# Altium schematic symbol library STM32.SchLib: 10 symbols
Pins are listed as number, name and electrical type; pins without a type are passive.

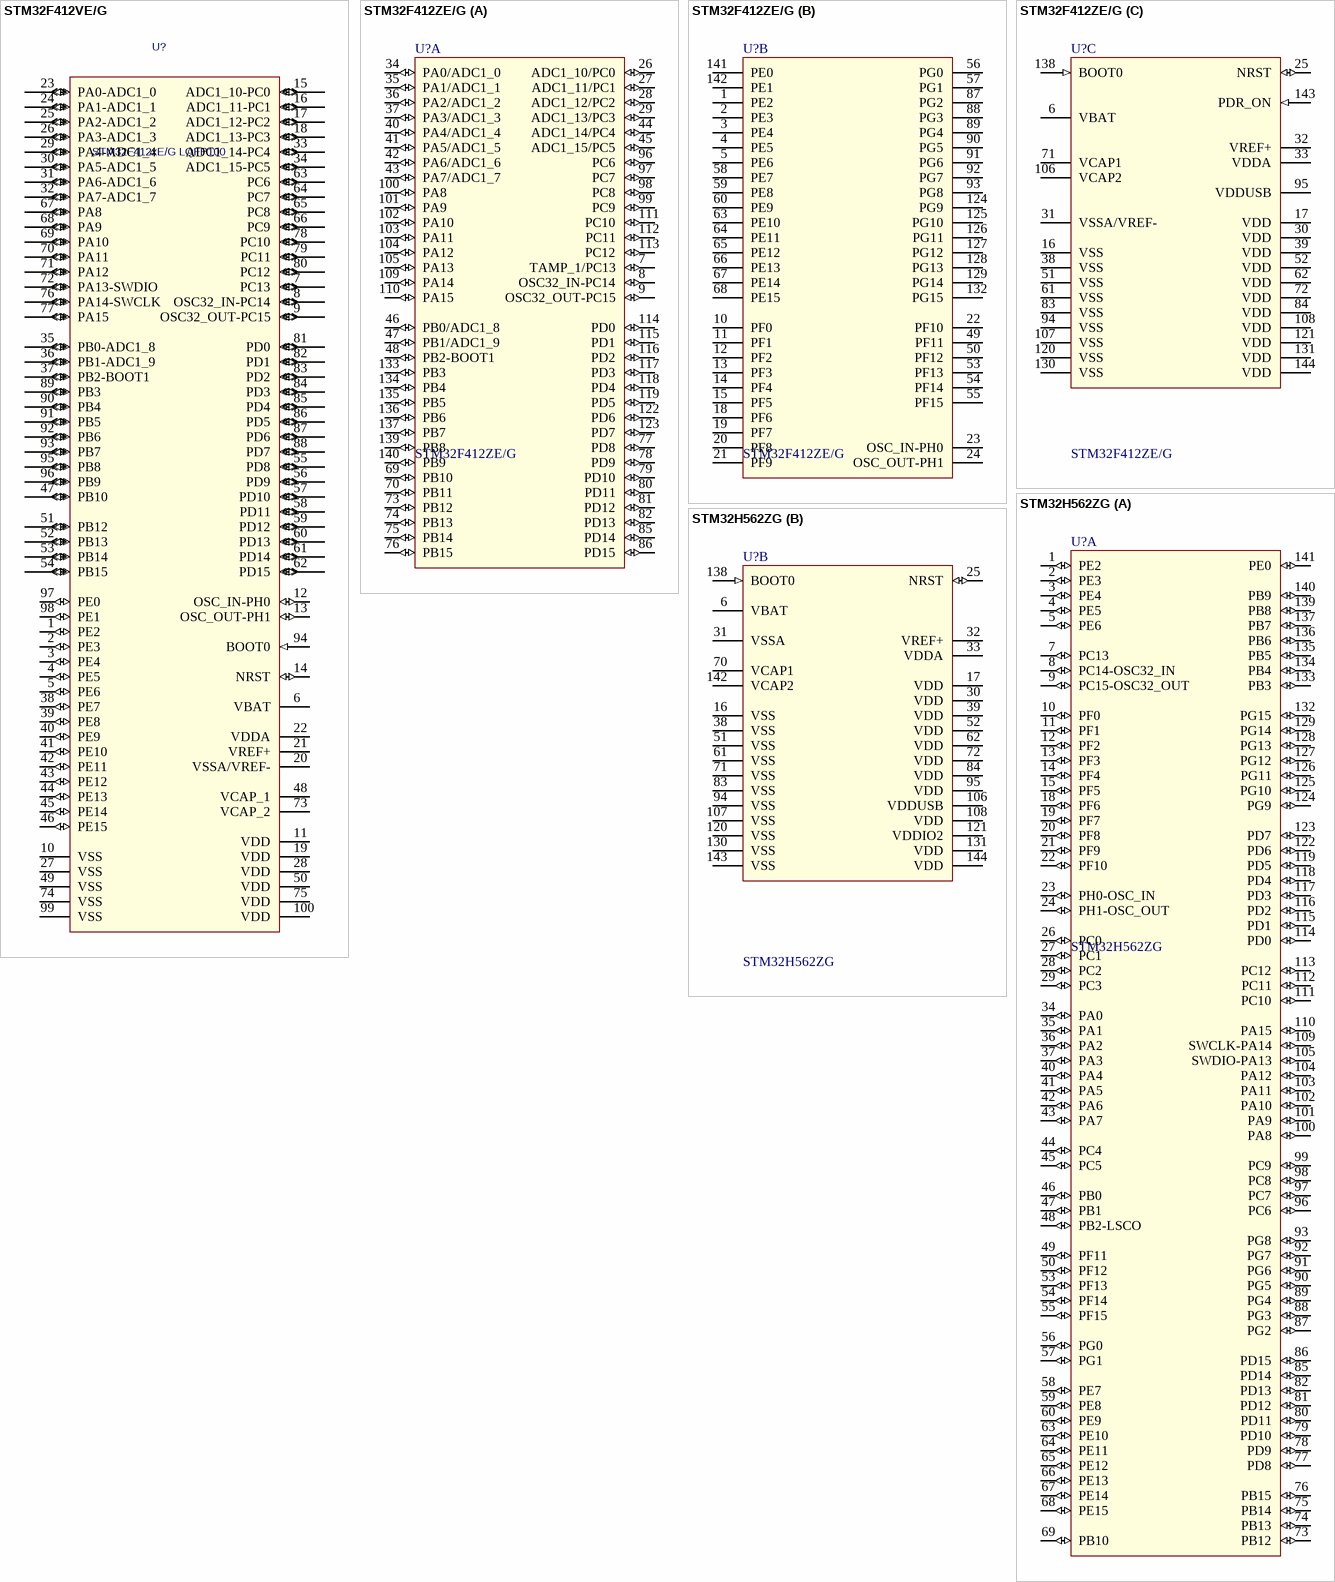
[diagram p0: symbols STM32F412VE/G to STM32H562ZG]

## STM32F412VE/G
designator U?, comment STM32F412xE/G LQFP100
STM32 Dynamic Efficiency MCU with BAM, High-performance and DSP with FPU, Arm Cortex-M4 MCU with 512 Kbytes of Flash memory, 100 MHz CPU, Art Accelerator, DFSDM; Value: *
footprint LQFP100_14x14 (LQFP, 100-Leads, Body 14,00x14,00mm, Pitch 0,50mm, IPC Medium Density)
pins: 1 PE2 (io), 2 PE3 (io), 3 PE4 (io), 4 PE5 (io), 5 PE6 (io), 6 VBAT (power), 7 PC13 (io), 8 OSC32_IN-PC14 (io), 9 OSC32_OUT-PC15 (io), 10 VSS (power), 11 VDD (power), 12 OSC_IN-PH0 (io), 13 OSC_OUT-PH1 (io), 14 NRST (io), 15 ADC1_10-PC0 (io), 16 ADC1_11-PC1 (io), 17 ADC1_12-PC2 (io), 18 ADC1_13-PC3 (io), 19 VDD (power), 20 VSSA/VREF- (power), 21 VREF+ (power), 22 VDDA, 23 PA0-ADC1_0 (io), 24 PA1-ADC1_1 (io), 25 PA2-ADC1_2 (io), 26 PA3-ADC1_3 (io), 27 VSS (power), 28 VDD (power), 29 PA4-ADC1_4 (io), 30 PA5-ADC1_5 (io), 31 PA6-ADC1_6 (io), 32 PA7-ADC1_7 (io), 33 ADC1_14-PC4 (io), 34 ADC1_15-PC5 (io), 35 PB0-ADC1_8 (io), 36 PB1-ADC1_9 (io), 37 PB2-BOOT1 (io), 38 PE7 (io), 39 PE8 (io), 40 PE9 (io), 41 PE10 (io), 42 PE11 (io), 43 PE12 (io), 44 PE13 (io), 45 PE14 (io), 46 PE15 (io), 47 PB10 (io), 48 VCAP_1, 49 VSS (power), 50 VDD (power), 51 PB12 (io), 52 PB13 (io), 53 PB14 (io), 54 PB15 (io), 55 PD8 (io), 56 PD9 (io), 57 PD10 (io), 58 PD11 (io), 59 PD12 (io), 60 PD13 (io), 61 PD14 (io), 62 PD15 (io), 63 PC6 (io), 64 PC7 (io), 65 PC8 (io), 66 PC9 (io), 67 PA8 (io), 68 PA9 (io), 69 PA10 (io), 70 PA11 (io), 71 PA12 (io), 72 PA13-SWDIO (io), 73 VCAP_2, 74 VSS (power), 75 VDD (power), 76 PA14-SWCLK (io), 77 PA15 (io), 78 PC10 (io), 79 PC11 (io), 80 PC12 (io), 81 PD0 (io), 82 PD1 (io), 83 PD2 (io), 84 PD3 (io), 85 PD4 (io), 86 PD5 (io), 87 PD6 (io), 88 PD7 (io), 89 PB3 (io), 90 PB4 (io), 91 PB5 (io), 92 PB6 (io), 93 PB7 (io), 94 BOOT0 (in), 95 PB8 (io), 96 PB9 (io), 97 PE0 (io), 98 PE1 (io), 99 VSS (power), 100 VDD (power)

## STM32F412ZE/G
designator U?
STM32 Dynamic Efficiency MCU with BAM, High-performance and DSP with FPU, Arm Cortex-M4 MCU with 512 Kbytes of Flash memory, 100 MHz CPU, Art Accelerator, DFSDM
footprint LQFP144_20x20 (LQFP 144-pin, 20 x 20 mm low-profile quad flat package)
part A pins: 7 TAMP_1/PC13 (io), 8 OSC32_IN-PC14 (io), 9 OSC32_OUT-PC15 (io), 26 ADC1_10/PC0 (io), 27 ADC1_11/PC1 (io), 28 ADC1_12/PC2 (io), 29 ADC1_13/PC3 (io), 34 PA0/ADC1_0 (io), 35 PA1/ADC1_1 (io), 36 PA2/ADC1_2 (io), 37 PA3/ADC1_3 (io), 40 PA4/ADC1_4 (io), 41 PA5/ADC1_5 (io), 42 PA6/ADC1_6 (io), 43 PA7/ADC1_7 (io), 44 ADC1_14/PC4 (io), 45 ADC1_15/PC5 (io), 46 PB0/ADC1_8 (io), 47 PB1/ADC1_9 (io), 48 PB2-BOOT1 (io), 69 PB10 (io), 70 PB11 (io), 73 PB12 (io), 74 PB13 (io), 75 PB14 (io), 76 PB15 (io), 77 PD8 (io), 78 PD9 (io), 79 PD10 (io), 80 PD11 (io), 81 PD12 (io), 82 PD13 (io), 85 PD14 (io), 86 PD15 (io), 96 PC6 (io), 97 PC7 (io), 98 PC8 (io), 99 PC9 (io), 100 PA8 (io), 101 PA9 (io), 102 PA10 (io), 103 PA11 (io), 104 PA12 (io), 105 PA13 (io), 109 PA14 (io), 110 PA15 (io), 111 PC10 (io), 112 PC11 (io), 113 PC12 (io), 114 PD0 (io), 115 PD1 (io), 116 PD2 (io), 117 PD3 (io), 118 PD4 (io), 119 PD5 (io), 122 PD6 (io), 123 PD7 (io), 133 PB3 (io), 134 PB4 (io), 135 PB5 (io), 136 PB6 (io), 137 PB7 (io), 139 PB8 (io), 140 PB9 (io)
part B pins: 1 PE2, 2 PE3, 3 PE4, 4 PE5, 5 PE6, 10 PF0, 11 PF1, 12 PF2, 13 PF3, 14 PF4, 15 PF5, 18 PF6, 19 PF7, 20 PF8, 21 PF9, 22 PF10, 23 OSC_IN-PH0, 24 OSC_OUT-PH1, 49 PF11, 50 PF12, 53 PF13, 54 PF14, 55 PF15, 56 PG0, 57 PG1, 58 PE7, 59 PE8, 60 PE9, 63 PE10, 64 PE11, 65 PE12, 66 PE13, 67 PE14, 68 PE15, 87 PG2, 88 PG3, 89 PG4, 90 PG5, 91 PG6, 92 PG7, 93 PG8, 124 PG9, 125 PG10, 126 PG11, 127 PG12, 128 PG13, 129 PG14, 132 PG15, 141 PE0, 142 PE1
part C pins: 6 VBAT, 16 VSS (power), 17 VDD (power), 25 NRST (io), 30 VDD (power), 31 VSSA/VREF- (power), 32 VREF+, 33 VDDA, 38 VSS (power), 39 VDD (power), 51 VSS (power), 52 VDD (power), 61 VSS (power), 62 VDD, 71 VCAP1, 72 VDD (power), 83 VSS (power), 84 VDD (power), 94 VSS (power), 95 VDDUSB (power), 106 VCAP2, 107 VSS (power), 108 VDD (power), 120 VSS (power), 121 VDD (power), 130 VSS, 131 VDD, 138 BOOT0 (in), 143 PDR_ON (in), 144 VDD (power)

## STM32H562ZG
designator U?
High-performance, Arm Cortex-M33 with TrustZone, MCU with 1-MByte Flash, 640-Kbyte RAM, 250 MHz CPU; value: STM32H562ZG
footprint LQFP144_20x20 (LQFP 144-pin, 20 x 20 mm low-profile quad flat package)
part A pins: 1 PE2 (io), 2 PE3 (io), 3 PE4 (io), 4 PE5 (io), 5 PE6 (io), 7 PC13 (io), 8 PC14-OSC32_IN (io), 9 PC15-OSC32_OUT (io), 10 PF0 (io), 11 PF1 (io), 12 PF2 (io), 13 PF3 (io), 14 PF4 (io), 15 PF5 (io), 18 PF6 (io), 19 PF7 (io), 20 PF8 (io), 21 PF9 (io), 22 PF10 (io), 23 PH0-OSC_IN (io), 24 PH1-OSC_OUT (io), 26 PC0 (io), 27 PC1 (io), 28 PC2 (io), 29 PC3 (io), 34 PA0 (io), 35 PA1 (io), 36 PA2 (io), 37 PA3 (io), 40 PA4 (io), 41 PA5 (io), 42 PA6 (io), 43 PA7 (io), 44 PC4 (io), 45 PC5 (io), 46 PB0 (io), 47 PB1 (io), 48 PB2-LSCO (io), 49 PF11 (io), 50 PF12 (io), 53 PF13 (io), 54 PF14 (io), 55 PF15 (io), 56 PG0 (io), 57 PG1 (io), 58 PE7 (io), 59 PE8 (io), 60 PE9 (io), 63 PE10 (io), 64 PE11 (io), 65 PE12 (io), 66 PE13 (io), 67 PE14 (io), 68 PE15 (io), 69 PB10 (io), 73 PB12 (io), 74 PB13 (io), 75 PB14 (io), 76 PB15 (io), 77 PD8 (io), 78 PD9 (io), 79 PD10 (io), 80 PD11 (io), 81 PD12 (io), 82 PD13 (io), 85 PD14 (io), 86 PD15 (io), 87 PG2 (io), 88 PG3 (io), 89 PG4 (io), 90 PG5 (io), 91 PG6 (io), 92 PG7 (io), 93 PG8 (io), 96 PC6 (io), 97 PC7 (io), 98 PC8 (io), 99 PC9 (io), 100 PA8 (io), 101 PA9 (io), 102 PA10 (io), 103 PA11 (io), 104 PA12 (io), 105 SWDIO-PA13 (io), 109 SWCLK-PA14 (io), 110 PA15 (io), 111 PC10 (io), 112 PC11 (io), 113 PC12 (io), 114 PD0 (io), 115 PD1 (io), 116 PD2 (io), 117 PD3 (io), 118 PD4 (io), 119 PD5 (io), 122 PD6 (io), 123 PD7 (io), 124 PG9 (io), 125 PG10 (io), 126 PG11 (io), 127 PG12 (io), 128 PG13 (io), 129 PG14 (io), 132 PG15 (io), 133 PB3 (io), 134 PB4 (io), 135 PB5 (io), 136 PB6 (io), 137 PB7 (io), 139 PB8 (io), 140 PB9 (io), 141 PE0 (io)
part B pins: 6 VBAT, 16 VSS (power), 17 VDD (power), 25 NRST (io), 30 VDD (power), 31 VSSA, 32 VREF+ (power), 33 VDDA, 38 VSS (power), 39 VDD (power), 51 VSS (power), 52 VDD (power), 61 VSS (power), 62 VDD, 70 VCAP1, 71 VSS (power), 72 VDD (power), 83 VSS (power), 84 VDD (power), 94 VSS (power), 95 VDD (power), 106 VDDUSB (power), 107 VSS (power), 108 VDD (power), 120 VSS (power), 121 VDDIO2 (power), 130 VSS, 131 VDD, 138 BOOT0 (in), 142 VCAP2, 143 VSS (power), 144 VDD (power)

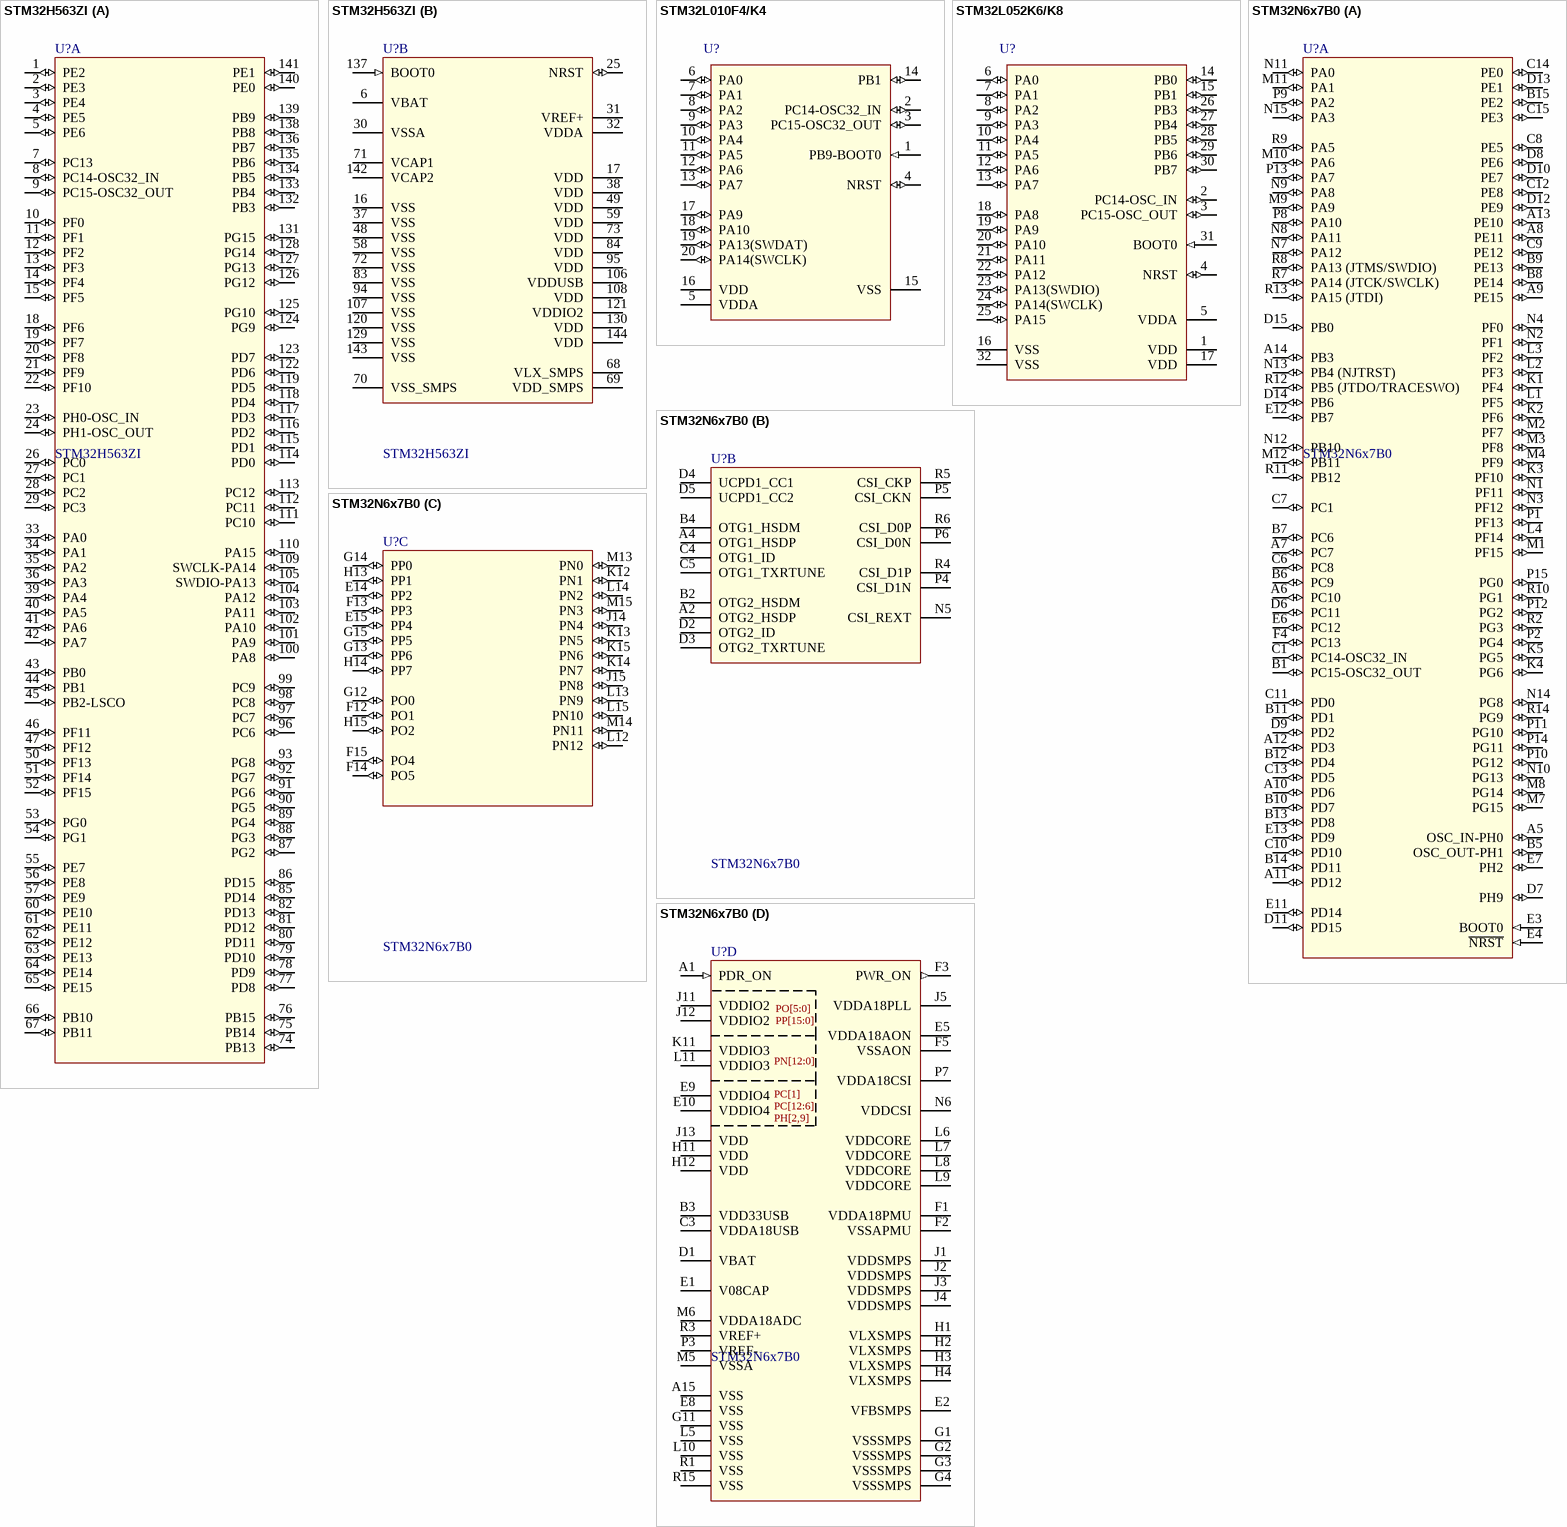
[diagram p1: symbols STM32H563ZI to STM32N6x7B0]

## STM32H563ZI
designator U?
ARM Microcontrollers - MCU Arm Cortex-M33 32-bit 250 MHz 2 Mbytes Flash 640KB RAM I3C, DCMI, Ethernet, SMPS; value: STM32H563ZI
footprint LQFP144_20x20 (LQFP 144-pin, 20 x 20 mm low-profile quad flat package)
part A pins: 1 PE2 (io), 2 PE3 (io), 3 PE4 (io), 4 PE5 (io), 5 PE6 (io), 7 PC13 (io), 8 PC14-OSC32_IN (io), 9 PC15-OSC32_OUT (io), 10 PF0 (io), 11 PF1 (io), 12 PF2 (io), 13 PF3 (io), 14 PF4 (io), 15 PF5 (io), 18 PF6 (io), 19 PF7 (io), 20 PF8 (io), 21 PF9 (io), 22 PF10 (io), 23 PH0-OSC_IN (io), 24 PH1-OSC_OUT (io), 26 PC0 (io), 27 PC1 (io), 28 PC2 (io), 29 PC3 (io), 33 PA0 (io), 34 PA1 (io), 35 PA2 (io), 36 PA3 (io), 39 PA4 (io), 40 PA5 (io), 41 PA6 (io), 42 PA7 (io), 43 PB0 (io), 44 PB1 (io), 45 PB2-LSCO (io), 46 PF11 (io), 47 PF12 (io), 50 PF13 (io), 51 PF14 (io), 52 PF15 (io), 53 PG0 (io), 54 PG1 (io), 55 PE7 (io), 56 PE8 (io), 57 PE9 (io), 60 PE10 (io), 61 PE11 (io), 62 PE12 (io), 63 PE13 (io), 64 PE14 (io), 65 PE15 (io), 66 PB10 (io), 67 PB11 (io), 74 PB13 (io), 75 PB14 (io), 76 PB15 (io), 77 PD8 (io), 78 PD9 (io), 79 PD10 (io), 80 PD11 (io), 81 PD12 (io), 82 PD13 (io), 85 PD14 (io), 86 PD15 (io), 87 PG2 (io), 88 PG3 (io), 89 PG4 (io), 90 PG5 (io), 91 PG6 (io), 92 PG7 (io), 93 PG8 (io), 96 PC6 (io), 97 PC7 (io), 98 PC8 (io), 99 PC9 (io), 100 PA8 (io), 101 PA9 (io), 102 PA10 (io), 103 PA11 (io), 104 PA12 (io), 105 SWDIO-PA13 (io), 109 SWCLK-PA14 (io), 110 PA15 (io), 111 PC10 (io), 112 PC11 (io), 113 PC12 (io), 114 PD0 (io), 115 PD1 (io), 116 PD2 (io), 117 PD3 (io), 118 PD4 (io), 119 PD5 (io), 122 PD6 (io), 123 PD7 (io), 124 PG9 (io), 125 PG10 (io), 126 PG12 (io), 127 PG13 (io), 128 PG14 (io), 131 PG15 (io), 132 PB3 (io), 133 PB4 (io), 134 PB5 (io), 135 PB6 (io), 136 PB7 (io), 138 PB8 (io), 139 PB9 (io), 140 PE0 (io), 141 PE1 (io)
part B pins: 6 VBAT, 16 VSS (power), 17 VDD (power), 25 NRST (io), 30 VSSA (power), 31 VREF+, 32 VDDA, 37 VSS (power), 38 VDD (power), 48 VSS (power), 49 VDD (power), 58 VSS (power), 59 VDD, 68 VLX_SMPS (power), 69 VDD_SMPS (power), 70 VSS_SMPS (power), 71 VCAP1, 72 VSS (power), 73 VDD (power), 83 VSS (power), 84 VDD (power), 94 VSS (power), 95 VDD (power), 106 VDDUSB (power), 107 VSS (power), 108 VDD (power), 120 VSS (power), 121 VDDIO2, 129 VSS, 130 VDD (power), 137 BOOT0 (in), 142 VCAP2, 143 VSS, 144 VDD (power)

## STM32L010F4/K4
designator U?
Ultra-low-power value line Arm Cortex-M0+ MCU with 16-Kbyte of Flash memory, 32 MHz CPU; PartNumber: STM32F050F6P7; FLASH Size (Prog) (kB): 32; I/Os (High Current): 15; Internal RAM Size (kB): 4; Operating Frequency(F) (Processor speed) (MHz): 48; Packing: Tube; Supply Voltage(Vcc) min (V): 2; DatasheetVersion: Rev. 1; PackageVersion: Rev. 1, 11/2012; PackageReference: TSSOP20; PackageDescription: 20-Pin Thin Shrink Small Outline Package, 6.5 x 4.4 mm Body, 0.65 mm Pitch; Supplier 1: Newark; Supplier Part Number 1: 19X6195; Supplier 2: Mouser; Supplier Part Number 2: 511-STM32F050F6P7; Core: ARM Cortex-M0; Mounting Technology: Surface Mount; ComponentLink1Description: Manufacturer URL; ComponentLink1URL: http://www.st.com/web/en/home.html; ComponentLink2Description: Datasheet; ComponentLink2URL: http://www.st.com/st-web-ui/static/active/en/resource/technical/document/datasheet/DM00065136.pdf; ComponentLink3Description: Package Specification; ComponentLink3URL: http://www.st.com/st-web-ui/static/active/en/resource/technical/document/datasheet/DM00065136.pdf
footprint TSSOP-20 (Shrink Small Outline; 20 Leads; Body Width 4.4 mm; Pitch 0.65 mm)
pins: 1 PB9-BOOT0 (in) "Boot memory selection", 2 PC14-OSC32_IN (io) "PC14-OSC_IN", 3 PC15-OSC32_OUT (io) "PC15-OSC_OUT", 4 NRST (io) "Device reset input / internal reset output (active low)", 5 VDDA (power) "Analog power supply", 6 PA0 (io) "PA0-CK_IN", 7 PA1 (io), 8 PA2 (io), 9 PA3 (io), 10 PA4 (io), 11 PA5 (io), 12 PA6 (io), 13 PA7 (io), 14 PB1 (io) "PB1/TIM3_CH4,TIM14_CH1,TIM1_CH3N/ADC_IN9", 15 VSS (power) "Ground", 16 VDD (power) "Digital power supply", 17 PA9 (io), 18 PA10 (io), 19 PA13(SWDAT) (io) "PA13(SWDAT)/IR_OUT,SWDAT", 20 PA14(SWCLK) (io) "PA14(SWCLK)/SWCLK,USART1_TX"

## STM32L052K6/K8
designator U?
Ultra-low power ARM Cortex-M0+ MCU with 64 Kbytes Flash, 32 MHz CPU, USB; PartNumber: STM32F050F6P7; FLASH Size (Prog) (kB): 32; I/Os (High Current): 15; Internal RAM Size (kB): 4; Operating Frequency(F) (Processor speed) (MHz): 48; Packing: Tube; Supply Voltage(Vcc) min (V): 2; DatasheetVersion: Rev. 1; PackageVersion: Rev. 1, 11/2012; PackageReference: TSSOP20; PackageDescription: 20-Pin Thin Shrink Small Outline Package, 6.5 x 4.4 mm Body, 0.65 mm Pitch; Supplier 1: Newark; Supplier Part Number 1: 19X6195; Supplier 2: Mouser; Supplier Part Number 2: 511-STM32F050F6P7; Core: ARM Cortex-M0; Mounting Technology: Surface Mount; ComponentLink1Description: Manufacturer URL; ComponentLink1URL: http://www.st.com/web/en/home.html; ComponentLink2Description: Datasheet; ComponentLink2URL: http://www.st.com/st-web-ui/static/active/en/resource/technical/document/datasheet/DM00065136.pdf; ComponentLink3Description: Package Specification; ComponentLink3URL: http://www.st.com/st-web-ui/static/active/en/resource/technical/document/datasheet/DM00065136.pdf
footprint STM-LQFP32_N (QFP, 32-Leads, Body 7x7mm, Pitch 0.8mm, IPC Medium Density)
pins: 1 VDD (power) "Digital power supply", 2 PC14-OSC_IN (io) "PF0-OSC_IN(PF0)/OSC_IN", 3 PC15-OSC_OUT (io) "PF1-OSC_OUT(PF1)/OSC_OUT", 4 NRST (io) "Device reset input / internal reset output (active low)", 5 VDDA (power) "Analog power supply", 6 PA0 (io) "PA0/USART1_CTS/ADC_IN0,RTC_TAMP2,WKUP1", 7 PA1 (io) "PA1/USART1_RTS,EVENTOUT/ADC_IN1", 8 PA2 (io) "PA2/USART1_TX/ADC_IN2", 9 PA3 (io) "PA3/USART1_RX/ADC_IN3", 10 PA4 (io) "PA4/SPI1_NSS,USART1_CK,TIM14_CH1/ADC_IN4", 11 PA5 (io) "PA5/SPI1_SCK/ADC_IN5", 12 PA6 (io) "PA6/SPI1_MISO,TIM3_CH1,TIM1_BKIN,TIM16_CH1,EVENTOUT/ADC_IN6", 13 PA7 (io) "PA7/SPI1_MOSI,TIM3_CH2,TIM14_CH1,TIM1_CH1N,TIM17_CH1,EVENTOUT/ADC_IN7", 14 PB0 (io) "PB0/TIM3_CH3,TIM1_CH2N,EVENTOUT/ADC_IN8", 15 PB1 (io) "PB1/TIM3_CH4,TIM14_CH1,TIM1_CH3N/ADC_IN9", 16 VSS (power) "Ground", 17 VDD (power) "Digital power supply", 18 PA8 (io) "PA8/USART1_CK,TIM1_CH1,EVENTOUT,MCO", 19 PA9 (io) "PA9/USART1_TX,TIM1_CH2,I2C1_SCL", 20 PA10 (io) "PA10/USART1_RX,TIM1_CH3,TIM17_BKIN,I2C1_SDA", 21 PA11 (io) "PA11/USART1_CTS,TIM1_CH4,EVENTOUT", 22 PA12 (io) "PA12/USART1_RTS,TIM1_ETR,EVENTOUT", 23 PA13(SWDIO) (io) "PA13(SWDIO)/IR_OUT,SWDIO", 24 PA14(SWCLK) (io) "PA14(SWCLK)/USART1_TX,SWCLK", 25 PA15 (io) "PA15/SPI1_NSS,USART1_RX,EVENTOUT", 26 PB3 (io) "PB3/SPI1_SCK,EVENTOUT", 27 PB4 (io) "PB4/SPI1_MISO,TIM3_CH1,EVENTOUT", 28 PB5 (io) "PB5/SPI1_MOSI,I2C1_SMBA,TIM16_BKIN,TIM3_CH2", 29 PB6 (io) "PB6/I2C1_SCL,USART1_TX,TIM16_CH1N", 30 PB7 (io) "PB7/I2C1_SDA,USART1_RX,TIM17_CH1N", 31 BOOT0 (in) "Boot memory selection", 32 VSS (power) "Ground"

## STM32N6x7B0
designator U?
High performance Arm Cortex-M55 MCU, 800MHz, 4.2MB SRAM, Neural-ART accelerator 600 GOPS, NeoChrom GPU, JPEG Codec, H-264 enc; Value: STM32N6x7B0
footprint VFBGA-198 (B0GJ) (VFBGA, 198-Leads, Body 10.00x10.00mmx1.00mm, Pitch 0.65mm)
part A pins: A5 OSC_IN-PH0 (io), A6 PC10 (io), A7 PC7 (io), A8 PE11 (io), A9 PE15 (io), A10 PD6 (io), A11 PD12 (io), A12 PD3 (io), A13 PE10 (io), A14 PB3 (io), B1 PC15-OSC32_OUT (io), B5 OSC_OUT-PH1 (io), B6 PC9 (io), B7 PC6 (io), B8 PE14 (io), B9 PE13 (io), B10 PD7 (io), B11 PD1 (io), B12 PD4 (io), B13 PD8 (io), B14 PD11 (io), B15 PE2 (io), C1 PC14-OSC32_IN (io), C6 PC8 (io), C7 PC1 (io), C8 PE5 (io), C9 PE12 (io), C10 PD10 (io), C11 PD0 (io), C12 PE8 (io), C13 PD5 (io), C14 PE0 (io), C15 PE3 (io), D6 PC11 (io), D7 PH9 (io), D8 PE6 (io), D9 PD2 (io), D10 PE7 (io), D11 PD15 (io), D12 PE9 (io), D13 PE1 (io), D14 PB6 (io), D15 PB0 (io), E3 BOOT0 (in), E4 ~{NRST} (in), E6 PC12 (io), E7 PH2 (io), E11 PD14 (io), E12 PB7 (io), E13 PD9 (io), F4 PC13 (io), K1 PF4 (io), K2 PF6 (io), K3 PF10 (io), K4 PG6 (io), K5 PG5 (io), L1 PF5 (io), L2 PF3 (io), L3 PF2 (io), L4 PF14 (io), M1 PF15 (io), M2 PF7 (io), M3 PF8 (io), M4 PF9 (io), M7 PG15 (io), M8 PG14 (io), M9 PA9 (io), M10 PA6 (io), M11 PA1 (io), M12 PB11 (io), N1 PF11 (io), N2 PF1 (io), N3 PF12 (io), N4 PF0 (io), N7 PA12 (io), N8 PA11 (io), N9 PA8 (io), N10 PG13 (io), N11 PA0 (io), N12 PB10 (io), N13 PB4 (NJTRST) (io), N14 PG8 (io), N15 PA3 (io), P1 PF13 (io), P2 PG4 (io), P8 PA10 (io), P9 PA2 (io), P10 PG12 (io), P11 PG10 (io), P12 PG2 (io), P13 PA7 (io), P14 PG11 (io), P15 PG0 (io), R2 PG3 (io), R7 PA14 (JTCK/SWCLK) (io), R8 PA13 (JTMS/SWDIO) (io), R9 PA5 (io), R10 PG1 (io), R11 PB12 (io), R12 PB5 (JTDO/TRACESWO) (io), R13 PA15 (JTDI) (io), R14 PG9 (io)
part B pins: A2 OTG2_HSDP, A4 OTG1_HSDP, B2 OTG2_HSDM, B4 OTG1_HSDM, C4 OTG1_ID, C5 OTG1_TXRTUNE, D2 OTG2_ID, D3 OTG2_TXRTUNE, D4 UCPD1_CC1, D5 UCPD1_CC2, N5 CSI_REXT, P4 CSI_D1N, P5 CSI_CKN, P6 CSI_D0N, R4 CSI_D1P, R5 CSI_CKP, R6 CSI_D0P
part C pins: E14 PP2 (io), E15 PP4 (io), F12 PO1 (io), F13 PP3 (io), F14 PO5 (io), F15 PO4 (io), G12 PO0 (io), G13 PP6 (io), G14 PP0 (io), G15 PP5 (io), H13 PP1 (io), H14 PP7 (io), H15 PO2 (io), J14 PN4 (io), J15 PN8 (io), K12 PN1 (io), K13 PN5 (io), K14 PN7 (io), K15 PN6 (io), L12 PN12 (io), L13 PN9 (io), L14 PN2 (io), L15 PN10 (io), M13 PN0 (io), M14 PN11 (io), M15 PN3 (io)
part D pins: A1 PDR_ON (in), A15 VSS (power), B3 VDD33USB (power), C3 VDDA18USB (power), D1 VBAT (power), E1 V08CAP, E2 VFBSMPS, E5 VDDA18AON (power), E8 VSS (power), E9 VDDIO4 (power), E10 VDDIO4 (power), F1 VDDA18PMU (power), F2 VSSAPMU (power), F3 PWR_ON (out), F5 VSSAON (power), G1 VSSSMPS (power), G2 VSSSMPS (power), G3 VSSSMPS (power), G4 VSSSMPS (power), G11 VSS (power), H1 VLXSMPS (power), H2 VLXSMPS (power), H3 VLXSMPS (power), H4 VLXSMPS (power), H11 VDD (power), H12 VDD (power), J1 VDDSMPS (power), J2 VDDSMPS (power), J3 VDDSMPS (power), J4 VDDSMPS (power), J5 VDDA18PLL (power), J11 VDDIO2 (power), J12 VDDIO2 (power), J13 VDD (power), K11 VDDIO3 (power), L5 VSS (power), L6 VDDCORE (power), L7 VDDCORE (power), L8 VDDCORE (power), L9 VDDCORE (power), L10 VSS (power), L11 VDDIO3 (power), M5 VSSA (power), M6 VDDA18ADC (power), N6 VDDCSI (power), P3 VREF- (power), P7 VDDA18CSI (power), R1 VSS (power), R3 VREF+, R15 VSS (power)
part D text: PO[5:0] / PP[15:0]; PN[12:0]; PC[1] / PC[12:6] / PH[2,9]

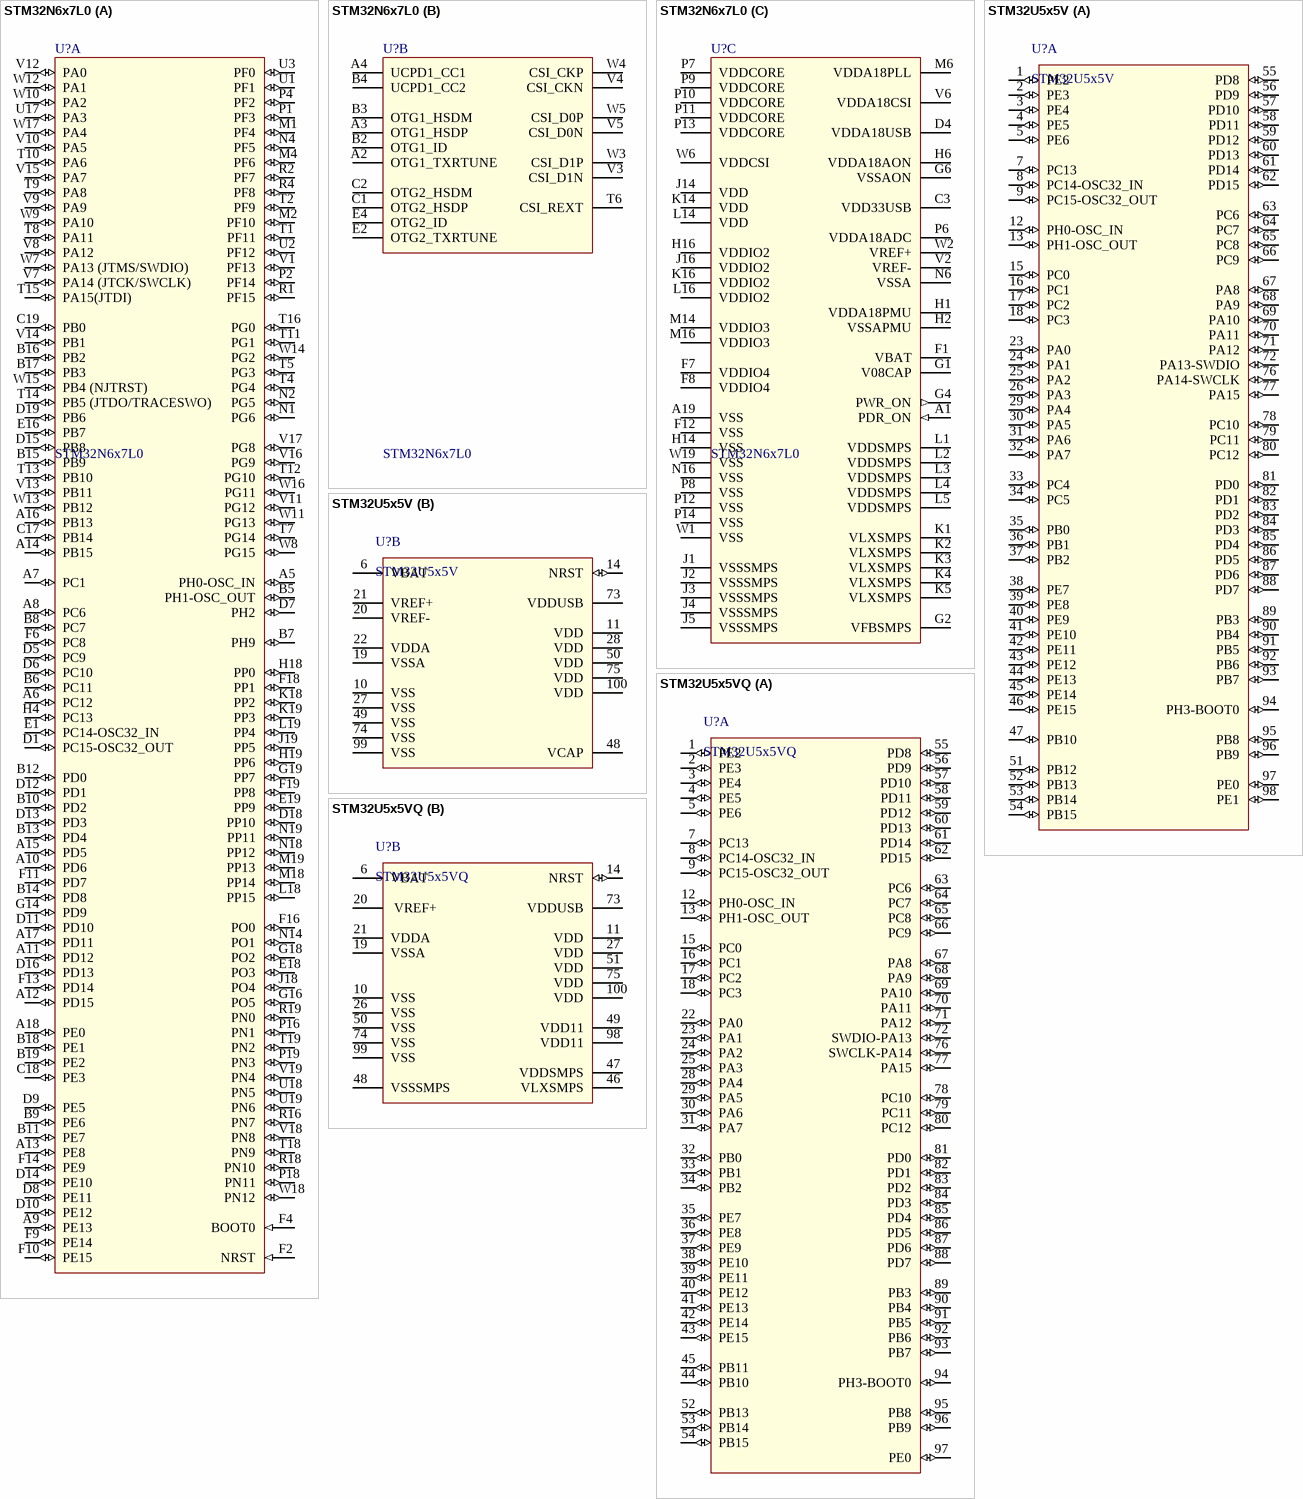
[diagram p2: symbols STM32N6x7L0 to STM32U5x5VQ]

## STM32N6x7L0
designator U?
Value: STM32N6x7L0
footprint VFBGA-223 (B0GK) (VFBGA, 223-Leads, Body 10.00x10.00mmx1.00mm, Pitch 0.50mm)
part A pins: A5 PH0-OSC_IN (io), A6 PC12 (io), A7 PC1 (io), A8 PC6 (io), A9 PE13 (io), A10 PD6 (io), A11 PD12 (io), A12 PD15 (io), A13 PE8 (io), A14 PB15 (io), A15 PD5 (io), A16 PB13 (io), A17 PD11 (io), A18 PE0 (io), B5 PH1-OSC_OUT (io), B6 PC11 (io), B7 PH9 (io), B8 PC7 (io), B9 PE6 (io), B10 PD2 (io), B11 PE7 (io), B12 PD0 (io), B13 PD4 (io), B14 PD8 (io), B15 PB9 (io), B16 PB2 (io), B17 PB3 (io), B18 PE1 (io), B19 PE2 (io), C17 PB14 (io), C18 PE3 (io), C19 PB0 (io), D1 PC15-OSC32_OUT (io), D5 PC9 (io), D6 PC10 (io), D7 PH2 (io), D8 PE11 (io), D9 PE5 (io), D10 PE12 (io), D11 PD10 (io), D12 PD1 (io), D13 PD3 (io), D14 PE10 (io), D15 PB8 (io), D16 PD13 (io), D18 PP10 (io), D19 PB6 (io), E1 PC14-OSC32_IN (io), E16 PB7 (io), E18 PO3 (io), E19 PP9 (io), F2 NRST (in), F4 BOOT0 (in), F6 PC8 (io), F9 PE14 (io), F10 PE15 (io), F11 PD7 (io), F13 PD14 (io), F14 PE9 (io), F16 PO0 (io), F18 PP1 (io), F19 PP8 (io), G14 PD9 (io), G16 PO5 (io), G18 PO2 (io), G19 PP7 (io), H4 PC13 (io), H18 PP0 (io), H19 PP6 (io), J18 PO4 (io), J19 PP5 (io), K18 PP2 (io), K19 PP3 (io), L18 PP15 (io), L19 PP4 (io), M1 PF4 (io), M2 PF10 (io), M4 PF6 (io), M18 PP14 (io), M19 PP13 (io), N1 PG6 (io), N2 PG5 (io), N4 PF5 (io), N14 PO1 (io), N18 PP12 (io), N19 PP11 (io), P1 PF3 (io), P2 PF14 (io), P4 PF2 (io), P16 PN1 (io), P18 PN11 (io), P19 PN3 (io), R1 PF15 (io), R2 PF7 (io), R4 PF8 (io), R16 PN7 (io), R18 PN10 (io), R19 PN0 (io), T1 PF11 (io), T2 PF9 (io), T4 PG4 (io), T5 PG3 (io), T7 PG14 (io), T8 PA11 (io), T9 PA8 (io), T10 PA6 (io), T11 PG1 (io), T12 PG10 (io), T13 PB10 (io), T14 PB5 (JTDO/TRACESWO) (io), T15 PA15(JTDI) (io), T16 PG0 (io), T18 PN9 (io), T19 PN2 (io), U1 PF1 (io), U2 PF12 (io), U3 PF0 (io), U17 PA3 (io), U18 PN5 (io), U19 PN6 (io), V1 PF13 (io), V7 PA14 (JTCK/SWCLK) (io), V8 PA12 (io), V9 PA9 (io), V10 PA5 (io), V11 PG12 (io), V12 PA0 (io), V13 PB11 (io), V14 PB1 (io), V15 PA7 (io), V16 PG9 (io), V17 PG8 (io), V18 PN8 (io), V19 PN4 (io), W7 PA13 (JTMS/SWDIO) (io), W8 PG15 (io), W9 PA10 (io), W10 PA2 (io), W11 PG13 (io), W12 PA1 (io), W13 PB12 (io), W14 PG2 (io), W15 PB4 (NJTRST) (io), W16 PG11 (io), W17 PA4 (io), W18 PN12 (io)
part B pins: A2 OTG1_TXRTUNE, A3 OTG1_HSDP, A4 UCPD1_CC1, B2 OTG1_ID, B3 OTG1_HSDM, B4 UCPD1_CC2, C1 OTG2_HSDP, C2 OTG2_HSDM, E2 OTG2_TXRTUNE, E4 OTG2_ID, T6 CSI_REXT, V3 CSI_D1N, V4 CSI_CKN, V5 CSI_D0N, W3 CSI_D1P, W4 CSI_CKP, W5 CSI_D0P
part C pins: A1 PDR_ON (in), A19 VSS (power), C3 VDD33USB (power), D4 VDDA18USB (power), F1 VBAT (power), F7 VDDIO4 (power), F8 VDDIO4 (power), F12 VSS (power), G1 V08CAP (power), G2 VFBSMPS (power), G4 PWR_ON (out), G6 VSSAON (power), H1 VDDA18PMU (power), H2 VSSAPMU (power), H6 VDDA18AON (power), H14 VSS (power), H16 VDDIO2 (power), J1 VSSSMPS (power), J2 VSSSMPS (power), J3 VSSSMPS (power), J4 VSSSMPS (power), J5 VSSSMPS (power), J14 VDD (power), J16 VDDIO2 (power), K1 VLXSMPS (power), K2 VLXSMPS (power), K3 VLXSMPS (power), K4 VLXSMPS (power), K5 VLXSMPS (power), K14 VDD (power), K16 VDDIO2 (power), L1 VDDSMPS (power), L2 VDDSMPS (power), L3 VDDSMPS (power), L4 VDDSMPS, L5 VDDSMPS (power), L14 VDD (power), L16 VDDIO2 (power), M6 VDDA18PLL (power), M14 VDDIO3 (power), M16 VDDIO3 (power), N6 VSSA (power), N16 VSS (power), P6 VDDA18ADC (power), P7 VDDCORE (power), P8 VSS (power), P9 VDDCORE (power), P10 VDDCORE (power), P11 VDDCORE (power), P12 VSS (power), P13 VDDCORE (power), P14 VSS (power), V2 VREF- (power), V6 VDDA18CSI (power), W1 VSS (power), W2 VREF+ (power), W6 VDDCSI (power), W19 VSS (power)

## STM32U5x5V
designator U?
Ultra-low-power with FPU Arm Cortex-M33 MCU with TrustZone, 160 MHz with 1 Mbyte of Flash memory; Value: STM32U575VGT6
footprint LQFP100_14x14 (LQFP, 100-Leads, Body 14,00x14,00mm, Pitch 0,50mm, IPC Medium Density)
part A pins: 1 PE2 (io), 2 PE3 (io), 3 PE4 (io), 4 PE5 (io), 5 PE6 (io), 7 PC13 (io), 8 PC14-OSC32_IN (io), 9 PC15-OSC32_OUT (io), 12 PH0-OSC_IN (io), 13 PH1-OSC_OUT (io), 15 PC0 (io), 16 PC1 (io), 17 PC2 (io), 18 PC3 (io), 23 PA0 (io), 24 PA1 (io), 25 PA2 (io), 26 PA3 (io), 29 PA4 (io), 30 PA5 (io), 31 PA6 (io), 32 PA7 (io), 33 PC4 (io), 34 PC5 (io), 35 PB0 (io), 36 PB1 (io), 37 PB2 (io), 38 PE7 (io), 39 PE8 (io), 40 PE9 (io), 41 PE10 (io), 42 PE11 (io), 43 PE12 (io), 44 PE13 (io), 45 PE14 (io), 46 PE15 (io), 47 PB10 (io), 51 PB12 (io), 52 PB13 (io), 53 PB14 (io), 54 PB15 (io), 55 PD8 (io), 56 PD9 (io), 57 PD10 (io), 58 PD11 (io), 59 PD12 (io), 60 PD13 (io), 61 PD14 (io), 62 PD15 (io), 63 PC6 (io), 64 PC7 (io), 65 PC8 (io), 66 PC9 (io), 67 PA8 (io), 68 PA9 (io), 69 PA10 (io), 70 PA11 (io), 71 PA12 (io), 72 PA13-SWDIO (io), 76 PA14-SWCLK (io), 77 PA15 (io), 78 PC10 (io), 79 PC11 (io), 80 PC12 (io), 81 PD0 (io), 82 PD1 (io), 83 PD2 (io), 84 PD3 (io), 85 PD4 (io), 86 PD5 (io), 87 PD6 (io), 88 PD7 (io), 89 PB3 (io), 90 PB4 (io), 91 PB5 (io), 92 PB6 (io), 93 PB7 (io), 94 PH3-BOOT0 (io), 95 PB8 (io), 96 PB9 (io), 97 PE0 (io), 98 PE1 (io)
part B pins: 6 VBAT (power), 10 VSS (power), 11 VDD (power), 14 NRST (io), 19 VSSA (power), 20 VREF- (power), 21 VREF+ (power), 22 VDDA (power), 27 VSS (power), 28 VDD (power), 48 VCAP (power), 49 VSS (power), 50 VDD (power), 73 VDDUSB (power), 74 VSS (power), 75 VDD (power), 99 VSS (power), 100 VDD (power)

## STM32U5x5VQ
designator U?
Ultra-low-power with FPU Arm Cortex-M33 MCU with TrustZone, 160 MHz with 1 Mbyte of Flash memory; Value: STM32U575VGT6Q
footprint LQFP100_14x14 (LQFP, 100-Leads, Body 14,00x14,00mm, Pitch 0,50mm, IPC Medium Density)
part A pins: 1 PE2 (io), 2 PE3 (io), 3 PE4 (io), 4 PE5 (io), 5 PE6 (io), 7 PC13 (io), 8 PC14-OSC32_IN (io), 9 PC15-OSC32_OUT (io), 12 PH0-OSC_IN (io), 13 PH1-OSC_OUT (io), 15 PC0 (io), 16 PC1 (io), 17 PC2 (io), 18 PC3 (io), 22 PA0 (io), 23 PA1 (io), 24 PA2 (io), 25 PA3 (io), 28 PA4 (io), 29 PA5 (io), 30 PA6 (io), 31 PA7 (io), 32 PB0 (io), 33 PB1 (io), 34 PB2 (io), 35 PE7 (io), 36 PE8 (io), 37 PE9 (io), 38 PE10 (io), 39 PE11 (io), 40 PE12 (io), 41 PE13 (io), 42 PE14 (io), 43 PE15 (io), 44 PB10 (io), 45 PB11 (io), 52 PB13 (io), 53 PB14 (io), 54 PB15 (io), 55 PD8 (io), 56 PD9 (io), 57 PD10 (io), 58 PD11 (io), 59 PD12 (io), 60 PD13 (io), 61 PD14 (io), 62 PD15 (io), 63 PC6 (io), 64 PC7 (io), 65 PC8 (io), 66 PC9 (io), 67 PA8 (io), 68 PA9 (io), 69 PA10 (io), 70 PA11 (io), 71 PA12 (io), 72 SWDIO-PA13 (io), 76 SWCLK-PA14 (io), 77 PA15 (io), 78 PC10 (io), 79 PC11 (io), 80 PC12 (io), 81 PD0 (io), 82 PD1 (io), 83 PD2 (io), 84 PD3 (io), 85 PD4 (io), 86 PD5 (io), 87 PD6 (io), 88 PD7 (io), 89 PB3 (io), 90 PB4 (io), 91 PB5 (io), 92 PB6 (io), 93 PB7 (io), 94 PH3-BOOT0 (io), 95 PB8 (io), 96 PB9 (io), 97 PE0 (io)
part B pins: 6 VBAT (power), 10 VSS (power), 11 VDD (power), 14 NRST (io), 19 VSSA (power), 20  VREF+ (power), 21 VDDA (power), 26 VSS (power), 27 VDD (power), 46 VLXSMPS (power), 47 VDDSMPS (power), 48 VSSSMPS (power), 49 VDD11 (power), 50 VSS (power), 51 VDD (power), 73 VDDUSB (power), 74 VSS (power), 75 VDD (oe), 98 VDD11 (power), 99 VSS (power), 100 VDD (power)